# EAGLE library part TLC5916/17 (library BillPorter)
TLC5916/17 8-Channel Constant-Current LED Sink Driver and Shift Register in one. Great for driving high current LEDs that would kill a 595 shift register. Specs @ http://focus.ti.com/docs/prod/folders/print/tlc5916.html
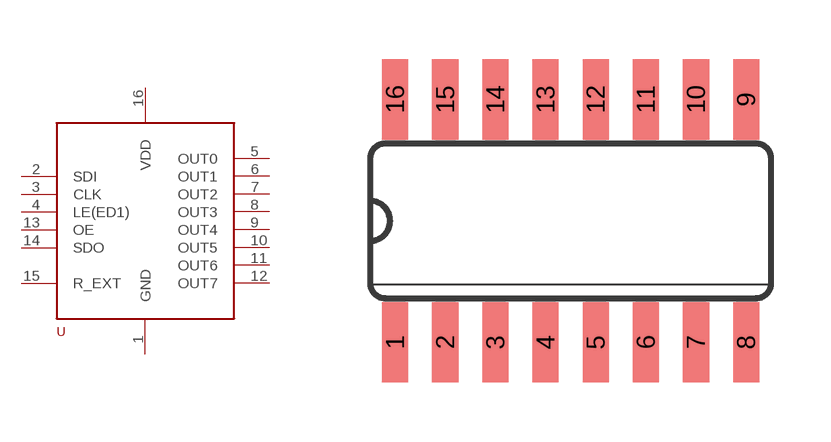
[diagram p5: symbol with the pads of SOIC-16; footprint SOIC-16]

Designator prefix -

## TLC5916/17  [SOIC-16]
1  GND
2  SDI
3  CLK
4  LE(ED1)
5  OUT0
6  OUT1
7  OUT2
8  OUT3
9  OUT4
10  OUT5
11  OUT6
12  OUT7
13  OE
14  SDO
15  R_EXT
16  VDD

## Footprint SOIC-16 (pad centres in mm)
smd 0.66 x 2.032: 1 -4.075,-3.073; 2 -2.805,-3.073; 3 -1.535,-3.073; 4 -0.265,-3.073; 5 1.005,-3.073; 6 2.275,-3.073; 7 3.545,-3.073; 8 4.815,-3.073; 9 4.815,3.073; 10 3.545,3.073; 11 2.275,3.073; 12 1.005,3.073; 13 -0.265,3.073; 14 -1.535,3.073; 15 -2.805,3.073; 16 -4.075,3.073